# Altium integrated library Micron Memory Mobile LPDRAM.IntLib: 146 symbols (part 13 of 41)
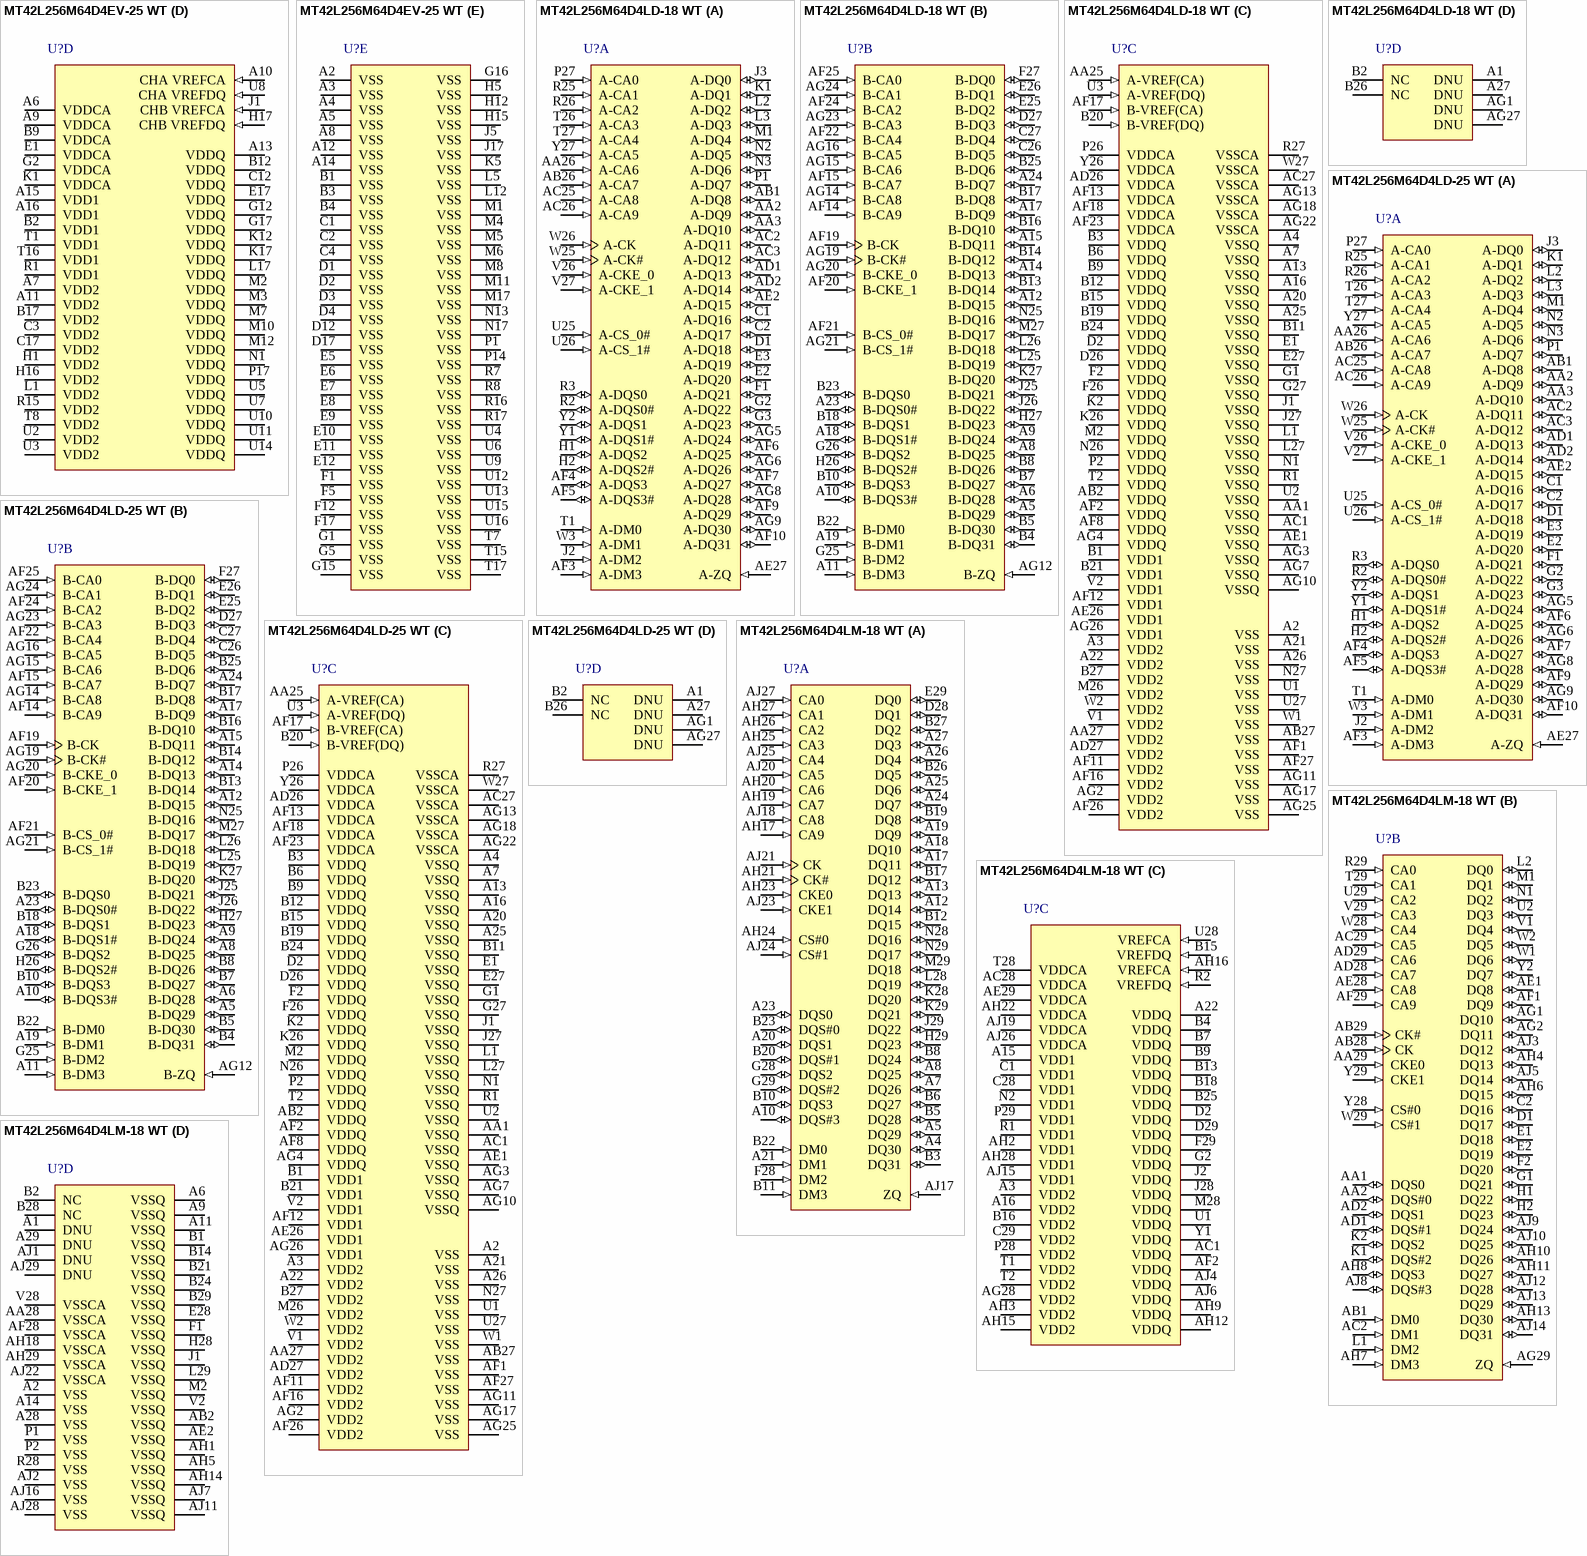
[diagram p36: symbols MT42L256M64D4EV-25 WT to MT42L256M64D4LM-18 WT]

## MT42L256M64D4LD-18 WT
designator U?
16Gb LPDDR2-1066 SDRAM, 256Mb x 64, 1.875ns, 1.2V, -25 to 85 degC, 220-Ball VFBGA, Pb-Free; Manufacturer: Micron; PartNumber: MT42L256M64D4LD-18 WT; Clock Rate: 533 MHz; Op. Temp.: -25C to +85C; DatasheetVersion: Rev.L; PackageVersion: Rev.L; PackageReference: MICT-LD-220; PackageDescription: 220-Ball Fine-Pitch Ball Grid Array, 14 x 14 mm, Pitch 0.5 mm; Cycle Time: 1.875ns; Data Rate: LPDDR2-1066; Density: 16Gb; Depth: 256Mb; Package: VFBGA; Part Status: Sampling; Pin Count: 220-ball; RoHS: Green; Technology: Mobile LPDDR2; Voltage: 1.2V; Width: x64; Mounting Technology: Surface Mount; ComponentLink1Description: Manufacturer URL; ComponentLink1URL: http://www.micron.com/; ComponentLink2Description: Datasheet; ComponentLink2URL: http://www.micron.com/~/media/Documents/Products/Data%20Sheet/DRAM/Mobile%20DRAM/Low-Power%20DRAM/LPDDR2/U80M_4Gb_mobile_lpddr2_s4_sdram.pdf; ComponentLink3Description: Package Specification; ComponentLink3URL: http://www.micron.com/~/media/Documents/Products/Data%20Sheet/DRAM/Mobile%20DRAM/Low-Power%20DRAM/LPDDR2/U80M_4Gb_mobile_lpddr2_s4_sdram.pdf
footprint MICT-LD-220 (BGA, 220-Balls, Body 14x14 mm,Pitch 0.5 mm)
part A pins: AA2 A-DQ9 (io) "Data input/output: Bidirectional data bus.", AA3 A-DQ10 (io) "Data input/output: Bidirectional data bus.", AA26 A-CA6 (in) "Command/address inputs: Provide the command and address inputs according to the command truth table.", AB1 A-DQ8 (io) "Data input/output: Bidirectional data bus.", AB26 A-CA7 (in) "Command/address inputs: Provide the command and address inputs according to the command truth table.", AC2 A-DQ11 (io) "Data input/output: Bidirectional data bus.", AC3 A-DQ12 (io) "Data input/output: Bidirectional data bus.", AC25 A-CA8 (in) "Command/address inputs: Provide the command and address inputs according to the command truth table.", AC26 A-CA9 (in) "Command/address inputs: Provide the command and address inputs according to the command truth table.", AD1 A-DQ13 (io) "Data input/output: Bidirectional data bus.", AD2 A-DQ14 (io) "Data input/output: Bidirectional data bus.", AE2 A-DQ15 (io) "Data input/output: Bidirectional data bus.", AE27 A-ZQ (in) "External impedance (240 ohm): This signal is used to calibrate the device output impedance.", AF3 A-DM3 (in) "Input data mask: DM is an input mask signal for write data. Although DM balls are input-only, the DM loading is designed to match that of DQ and DQS balls. DM[3:0] is DM for each of the four data bytes, respectively", AF4 A-DQS3 (io) "Data strobe: The data strobe is bidirectional (used for read and write data) and complementary (DQS and DQS#). It is edge-aligned output with read data and centered input with write data. DQS[3:0]/DQS[3:0]# is DQS for each (See Datasheet)", AF5 A-DQS3# (io) "Data strobe: The data strobe is bidirectional (used for read and write data) and complementary (DQS and DQS#). It is edge-aligned output with read data and centered input with write data. DQS[3:0]/DQS[3:0]# is DQS for each (See Datasheet)", AF6 A-DQ25 (io) "Data input/output: Bidirectional data bus", AF7 A-DQ27 (io) "Data input/output: Bidirectional data bus", AF9 A-DQ29 (io) "Data input/output: Bidirectional data bus", AF10 A-DQ31 (io) "Data input/output: Bidirectional data bus", AG5 A-DQ24 (io) "Data input/output: Bidirectional data bus", AG6 A-DQ26 (io) "Data input/output: Bidirectional data bus", AG8 A-DQ28 (io) "Data input/output: Bidirectional data bus", AG9 A-DQ30 (io) "Data input/output: Bidirectional data bus", C1 A-DQ16 (io) "Data input/output: Bidirectional data bus.", C2 A-DQ17 (io) "Data input/output: Bidirectional data bus.", D1 A-DQ18 (io) "Data input/output: Bidirectional data bus.", E2 A-DQ20 (io) "Data input/output: Bidirectional data bus.", E3 A-DQ19 (io) "Data input/output: Bidirectional data bus.", F1 A-DQ21 (io) "Data input/output: Bidirectional data bus.", G2 A-DQ22 (io) "Data input/output: Bidirectional data bus.", G3 A-DQ23 (io) "Data input/output: Bidirectional data bus.", H1 A-DQS2 (io) "Data strobe: The data strobe is bidirectional (used for read and write data) and complementary (DQS and DQS#). It is edge-aligned output with read data and centered input with write data. DQS[3:0]/DQS[3:0]# is DQS for each (See Datasheet)", H2 A-DQS2# (io) "Data strobe: The data strobe is bidirectional (used for read and write data) and complementary (DQS and DQS#). It is edge-aligned output with read data and centered input with write data. DQS[3:0]/DQS[3:0]# is DQS for each (See Datasheet)", J2 A-DM2 (in) "Input data mask: DM is an input mask signal for write data. Although DM balls are input-only, the DM loading is designed to match that of DQ and DQS balls. DM[3:0] is DM for each of the four data bytes, respectively.", J3 A-DQ0 (io) "Data input/output: Bidirectional data bus", K1 A-DQ1 (io) "Data input/output: Bidirectional data bus", L2 A-DQ2 (io) "Data input/output: Bidirectional data bus", L3 A-DQ3 (io) "Data input/output: Bidirectional data bus", M1 A-DQ4 (io) "Data input/output: Bidirectional data bus", N2 A-DQ5 (io) "Data input/output: Bidirectional data bus", N3 A-DQ6 (io) "Data input/output: Bidirectional data bus", P1 A-DQ7 (io) "Data input/output: Bidirectional data bus.", P27 A-CA0 (in) "Command/address inputs: Provide the command and address inputs according to the command truth table.", R2 A-DQS0# (io) "Data strobe: The data strobe is bidirectional (used for read and write data) and complementary (DQS and DQS#). It is edge-aligned output with read data and centered input with write data. DQS[3:0]/DQS[3:0]# is DQS for each (See Datasheet)", R3 A-DQS0 (io) "Data strobe: The data strobe is bidirectional (used for read and write data) and complementary (DQS and DQS#). It is edge-aligned output with read data and centered input with write data. DQS[3:0]/DQS[3:0]# is DQS for each (See Datasheet)", R25 A-CA1 (in) "Command/address inputs: Provide the command and address inputs according to the command truth table.", R26 A-CA2 (in) "Command/address inputs: Provide the command and address inputs according to the command truth table.", T1 A-DM0 (in) "Input data mask: DM is an input mask signal for write data. Although DM balls are input-only, the DM loading is designed to match that of DQ and DQS balls. DM[3:0] is DM for each of the four data bytes, respectively.", T26 A-CA3 (in) "Command/address inputs: Provide the command and address inputs according to the command truth table.", T27 A-CA4 (in) "Command/address inputs: Provide the command and address inputs according to the command truth table.", U25 A-CS_0# (in) "Chip select: CS# is considered part of the command code and is sampled at the rising edge of CK.", U26 A-CS_1# (in) "Chip select: CS# is considered part of the command code and is sampled at the rising edge of CK.", V26 A-CKE_0 (in) "Clock enable: CKE HIGH activates and CKE LOW deactivates the internal clock signals, input buffers, and output drivers. Power-saving modes are entered and exited via CKE transitions. CKE is considered part of the command (See Datasheet)", V27 A-CKE_1 (in) "Clock enable: CKE HIGH activates and CKE LOW deactivates the internal clock signals, input buffers, and output drivers. Power-saving modes are entered and exited via CKE transitions. CKE is considered part of the command (See Datasheet)", W3 A-DM1 (in) "Input data mask: DM is an input mask signal for write data. Although DM balls are input-only, the DM loading is designed to match that of DQ and DQS balls. DM[3:0] is DM for each of the four data bytes, respectively.", W25 A-CK# (in) "Clock: CK and CK# are differential clock inputs. All CA inputs are sampled on both rising and falling edges of CK. CS and CKE inputs are sampled at the rising edge of CK. AC timings are referenced to clock.", W26 A-CK (in) "Clock: CK and CK# are differential clock inputs. All CA inputs are sampled on both rising and falling edges of CK. CS and CKE inputs are sampled at the rising edge of CK. AC timings are referenced to clock.", Y1 A-DQS1# (io) "Data strobe: The data strobe is bidirectional (used for read and write data) and complementary (DQS and DQS#). It is edge-aligned output with read data and centered input with write data. DQS[3:0]/DQS[3:0]# is DQS for each (See Datasheet)", Y2 A-DQS1 (io) "Data strobe: The data strobe is bidirectional (used for read and write data) and complementary (DQS and DQS#). It is edge-aligned output with read data and centered input with write data. DQS[3:0]/DQS[3:0]# is DQS for each (See Datasheet)", Y27 A-CA5 (in) "Command/address inputs: Provide the command and address inputs according to the command truth table."
part B pins: A5 B-DQ29 (io) "Data input/output: Bidirectional data bus.", A6 B-DQ28 (io) "Data input/output: Bidirectional data bus.", A8 B-DQ25 (io) "Data input/output: Bidirectional data bus.", A9 B-DQ24 (io) "Data input/output: Bidirectional data bus.", A10 B-DQS3# (io) "Data strobe: The data strobe is bidirectional (used for read and write data) and complementary (DQS and DQS#). It is edge-aligned output with read data and centered input with write data. DQS[3:0]/DQS[3:0]# is DQS for each (See Datasheet)", A11 B-DM3 (in) "Input data mask: DM is an input mask signal for write data. Although DM balls are input-only, the DM loading is designed to match that of DQ and DQS balls. DM[3:0] is DM for each of the four data bytes, respectively.", A12 B-DQ15 (io) "Data input/output: Bidirectional data bus.", A14 B-DQ13 (io) "Data input/output: Bidirectional data bus.", A15 B-DQ11 (io) "Data input/output: Bidirectional data bus.", A17 B-DQ9 (io) "Data input/output: Bidirectional data bus.", A18 B-DQS1# (io) "Data strobe: The data strobe is bidirectional (used for read and write data) and complementary (DQS and DQS#). It is edge-aligned output with read data and centered input with write data. DQS[3:0]/DQS[3:0]# is DQS for each (See Datasheet)", A19 B-DM1 (in) "Input data mask: DM is an input mask signal for write data. Although DM balls are input-only, the DM loading is designed to match that of DQ and DQS balls. DM[3:0] is DM for each of the four data bytes, respectively.", A23 B-DQS0# (io) "Data strobe: The data strobe is bidirectional (used for read and write data) and complementary (DQS and DQS#). It is edge-aligned output with read data and centered input with write data. DQS[3:0]/DQS[3:0]# is DQS for each (See Datasheet)", A24 B-DQ7 (io) "Data input/output: Bidirectional data bus.", AF14 B-CA9 (in) "Command/address inputs: Provide the command and address inputs according to the command truth table.", AF15 B-CA7 (in) "Command/address inputs: Provide the command and address inputs according to the command truth table.", AF19 B-CK (in) "Chip select: CS# is considered part of the command code and is sampled at the rising edge of CK.", AF20 B-CKE_1 (in) "Clock enable: CKE HIGH activates and CKE LOW deactivates the internal clock signals, input buffers, and output drivers. Power-saving modes are entered and exited via CKE transitions. CKE is considered part of the command (See Datasheet)", AF21 B-CS_0# (in) "Chip select: CS# is considered part of the command code and is sampled at the rising edge of CK.", AF22 B-CA4 (in) "Command/address inputs: Provide the command and address inputs according to the command truth table.", AF24 B-CA2 (in) "Command/address inputs: Provide the command and address inputs according to the command truth table.", AF25 B-CA0 (in) "Command/address inputs: Provide the command and address inputs according to the command truth table.", AG12 B-ZQ (in) "External impedance (240 ohm): This signal is used to calibrate the device output impedance.", AG14 B-CA8 (in) "Command/address inputs: Provide the command and address inputs according to the command truth table.", AG15 B-CA6 (in) "Command/address inputs: Provide the command and address inputs according to the command truth table.", AG16 B-CA5 (in) "Command/address inputs: Provide the command and address inputs according to the command truth table.", AG19 B-CK# (in) "Clock: CK and CK# are differential clock inputs. All CA inputs are sampled on both rising and falling edges of CK. CS and CKE inputs are sampled at the rising edge of CK. AC timings are referenced to clock.", AG20 B-CKE_0 (in) "Clock enable: CKE HIGH activates and CKE LOW deactivates the internal clock signals, input buffers, and output drivers. Power-saving modes are entered and exited via CKE transitions. CKE is considered part of the command (See Datasheet)", AG21 B-CS_1# (in) "Clock enable: CKE HIGH activates and CKE LOW deactivates the internal clock signals, input buffers, and output drivers. Power-saving modes are entered and exited via CKE transitions. CKE is considered part of the command (See Datasheet)", AG23 B-CA3 (in) "Command/address inputs: Provide the command and address inputs according to the command truth table.", AG24 B-CA1 (in) "Command/address inputs: Provide the command and address inputs according to the command truth table.", B4 B-DQ31 (io) "Data input/output: Bidirectional data bus.", B5 B-DQ30 (io) "Data input/output: Bidirectional data bus.", B7 B-DQ27 (io) "Data input/output: Bidirectional data bus.", B8 B-DQ26 (io) "Data input/output: Bidirectional data bus.", B10 B-DQS3 (io) "Data input/output: Bidirectional data bus.", B13 B-DQ14 (io) "Data input/output: Bidirectional data bus.", B14 B-DQ12 (io) "Data input/output: Bidirectional data bus.", B16 B-DQ10 (io) "Data input/output: Bidirectional data bus.", B17 B-DQ8 (io) "Data input/output: Bidirectional data bus.", B18 B-DQS1 (io) "Data strobe: The data strobe is bidirectional (used for read and write data) and complementary (DQS and DQS#). It is edge-aligned output with read data and centered input with write data. DQS[3:0]/DQS[3:0]# is DQS for each (See Datasheet)", B22 B-DM0 (in) "Input data mask: DM is an input mask signal for write data. Although DM balls are input-only, the DM loading is designed to match that of DQ and DQS balls. DM[3:0] is DM for each of the four data bytes, respectively.", B23 B-DQS0 (io) "Data strobe: The data strobe is bidirectional (used for read and write data) and complementary (DQS and DQS#). It is edge-aligned output with read data and centered input with write data. DQS[3:0]/DQS[3:0]# is DQS for each (See Datasheet)", B25 B-DQ6 (io) "Data input/output: Bidirectional data bus.", C26 B-DQ5 (io) "Data input/output: Bidirectional data bus.", C27 B-DQ4 (io) "Data input/output: Bidirectional data bus.", D27 B-DQ3 (io) "Data input/output: Bidirectional data bus.", E25 B-DQ2 (io) "Data input/output: Bidirectional data bus.", E26 B-DQ1 (io) "Data input/output: Bidirectional data bus.", F27 B-DQ0 (io) "Data input/output: Bidirectional data bus.", G25 B-DM2 (in) "Input data mask: DM is an input mask signal for write data. Although DM balls are input-only, the DM loading is designed to match that of DQ and DQS balls. DM[3:0] is DM for each of the four data bytes, respectively", G26 B-DQS2 (io) "Data strobe: The data strobe is bidirectional (used for read and write data) and complementary (DQS and DQS#). It is edge-aligned output with read data and centered input with write data. DQS[3:0]/DQS[3:0]# is DQS for each (See Datasheet)", H26 B-DQS2# (io) "Data strobe: The data strobe is bidirectional (used for read and write data) and complementary (DQS and DQS#). It is edge-aligned output with read data and centered input with write data. DQS[3:0]/DQS[3:0]# is DQS for each (See Datasheet)", H27 B-DQ23 (io) "Data input/output: Bidirectional data bus", J25 B-DQ21 (io) "Data input/output: Bidirectional data bus", J26 B-DQ22 (io) "Data input/output: Bidirectional data bus", K27 B-DQ20 (io) "Data input/output: Bidirectional data bus", L25 B-DQ19 (io) "Data input/output: Bidirectional data bus", L26 B-DQ18 (io) "Data input/output: Bidirectional data bus.", M27 B-DQ17 (io) "Data input/output: Bidirectional data bus", N25 B-DQ16 (io) "Data input/output: Bidirectional data bus"
part C pins: A2 VSS (power) "Common ground", A3 VDD2 (power) "Core power: Supply 2.", A4 VSSQ (power) "DQ ground: Isolated on the die for improved noise immunity.", A7 VSSQ (power) "DQ ground: Isolated on the die for improved noise immunity.", A13 VSSQ (power) "DQ ground: Isolated on the die for improved noise immunity.", A16 VSSQ (power) "DQ ground: Isolated on the die for improved noise immunity.", A20 VSSQ (power) "DQ ground: Isolated on the die for improved noise immunity.", A21 VSS (power) "Common ground", A22 VDD2 (power) "Core power: Supply 2.", A25 VSSQ (power) "DQ ground: Isolated on the die for improved noise immunity.", A26 VSS (power) "Common ground", AA1 VSSQ (power) "DQ ground: Isolated on the die for improved noise immunity.", AA25 A-VREF(CA) (in) "Reference voltage: VREFCA is reference for command/address input buffers, VREFDQ is reference for DQ input buffers.", AA27 VDD2 (power) "Core power: Supply 2", AB2 VDDQ (power) "DQ power supply: Isolated on the die for improved noise immunity.", AB27 VSS (power) "Common ground", AC1 VSSQ (power) "DQ ground: Isolated on the die for improved noise immunity.", AC27 VSSCA (power) "Command/address ground: Isolated on the die for improved noise immunity.", AD26 VDDCA (power) "Command/address power supply: Command/address power supply.", AD27 VDD2 (power) "Core power: Supply 2", AE1 VSSQ (power) "DQ ground: Isolated on the die for improved noise immunity.", AE26 VDD1 (power) "Core power: Supply 1.", AF1 VSS (power) "Common ground", AF2 VDDQ (power) "DQ power supply: Isolated on the die for improved noise immunity.", AF8 VDDQ (power) "DQ power supply: Isolated on the die for improved noise immunity.", AF11 VDD2 (power) "Core power: Supply 2.", AF12 VDD1 (power) "Core power: Supply 1.", AF13 VDDCA (power) "Command/address power supply: Command/address power supply.", AF16 VDD2 (power) "Core power: Supply 2.", AF17 B-VREF(CA) (in) "Reference voltage: VREFCA is reference for command/address input buffers, VREFDQ is reference for DQ input buffers.", AF18 VDDCA (power) "Command/address power supply: Command/address power supply", AF23 VDDCA (power) "Command/address power supply: Command/address power supply.", AF26 VDD2 (power) "Core power: Supply 2.", AF27 VSS (power) "Common ground", AG2 VDD2 (power) "Core power: Supply 2.", AG3 VSSQ (power) "DQ ground: Isolated on the die for improved noise immunity.", AG4 VDDQ (power) "DQ power supply: Isolated on the die for improved noise immunity.", AG7 VSSQ (power) "DQ ground: Isolated on the die for improved noise immunity.", AG10 VSSQ (power) "DQ ground: Isolated on the die for improved noise immunity.", AG11 VSS (power) "Common ground", AG13 VSSCA (power) "Command/address ground: Isolated on the die for improved noise immunity.", AG17 VSS (power) "Common ground", AG18 VSSCA (power) "Command/address ground: Isolated on the die for improved noise immunity.", AG22 VSSCA (power) "Command/address ground: Isolated on the die for improved noise immunity.", AG25 VSS (power) "Common ground", AG26 VDD1 (power) "Core power: Supply 1.", B1 VDD1 (power) "Core power: Supply 1.", B3 VDDQ (power) "DQ power supply: Isolated on the die for improved noise immunity.", B6 VDDQ (power) "DQ power supply: Isolated on the die for improved noise immunity.", B9 VDDQ (power) "DQ power supply: Isolated on the die for improved noise immunity.", B11 VSSQ (power) "DQ ground: Isolated on the die for improved noise immunity.", B12 VDDQ (power) "DQ power supply: Isolated on the die for improved noise immunity.", B15 VDDQ (power) "DQ power supply: Isolated on the die for improved noise immunity.", B19 VDDQ (power) "DQ power supply: Isolated on the die for improved noise immunity.", B20 B-VREF(DQ) (in) "Reference voltage: VREFCA is reference for command/address input buffers, VREFDQ is reference for DQ input buffers.", B21 VDD1 (power) "Core power: Supply 1.", B24 VDDQ (power) "DQ power supply: Isolated on the die for improved noise immunity.", B27 VDD2 (power) "Core power: Supply 2.", D2 VDDQ (power) "DQ power supply: Isolated on the die for improved noise immunity.", D26 VDDQ (power) "DQ power supply: Isolated on the die for improved noise immunity.", E1 VSSQ (power) "DQ ground: Isolated on the die for improved noise immunity.", E27 VSSQ (power) "DQ ground: Isolated on the die for improved noise immunity.", F2 VDDQ (power) "DQ power supply: Isolated on the die for improved noise immunity.", F26 VDDQ (power) "DQ power supply: Isolated on the die for improved noise immunity.", G1 VSSQ (power) "DQ ground: Isolated on the die for improved noise immunity", G27 VSSQ (power) "DQ ground: Isolated on the die for improved noise immunity.", J1 VSSQ (power) "DQ ground: Isolated on the die for improved noise immunity.", J27 VSSQ (power) "DQ ground: Isolated on the die for improved noise immunity.", K2 VDDQ (power) "DQ power supply: Isolated on the die for improved noise immunity.", K26 VDDQ (power) "DQ power supply: Isolated on the die for improved noise immunity.", L1 VSSQ (power) "DQ ground: Isolated on the die for improved noise immunity.", L27 VSSQ (power) "DQ ground: Isolated on the die for improved noise immunity.", M2 VDDQ (power) "DQ power supply: Isolated on the die for improved noise immunity.", M26 VDD2 (power) "Core power: Supply 2.", N1 VSSQ (power) "DQ ground: Isolated on the die for improved noise immunity.", N26 VDDQ (power) "DQ power supply: Isolated on the die for improved noise immunity.", N27 VSS (power) "Common ground", P2 VDDQ (power) "DQ power supply: Isolated on the die for improved noise immunity.", P26 VDDCA (power) "Command/address power supply: Command/address power supply.", R1 VSSQ (power) "DQ ground: Isolated on the die for improved noise immunity.", R27 VSSCA (power) "Command/address ground: Isolated on the die for improved noise immunity", T2 VDDQ (power) "DQ power supply: Isolated on the die for improved noise immunity", U1 VSS (power) "Common ground", U2 VSSQ (power) "DQ ground: Isolated on the die for improved noise immunity.", U3 A-VREF(DQ) (in) "Reference voltage: VREFCA is reference for command/address input buffers, VREFDQ is reference for DQ input buffers.", U27 VSS (power) "Common ground", V1 VDD2 (power) "Core power: Supply 2", V2 VDD1 (power) "Core power: Supply 1", W1 VSS (power) "Common ground", W2 VDD2 (power) "Core power: Supply 2.", W27 VSSCA (power) "Command/address ground: Isolated on the die for improved noise immunity.", Y26 VDDCA (power) "Command/address power supply: Command/address power supply."
part D pins: A1 DNU "Do not use: Must be grounded or left floating.", A27 DNU "Do not use: Must be grounded or left floating.", AG1 DNU "Do not use: Must be grounded or left floating.", AG27 DNU "Do not use: Must be grounded or left floating.", B2 NC "No connect: Not internally connected.", B26 NC "No connect: Not internally connected"

## MT42L256M64D4LD-25 WT
designator U?
16Gb LPDDR2-800 SDRAM, 256Mb x 64, 2.5ns, 1.2V, -25 to 85 degC, 220-Ball VFBGA, Pb-Free; Manufacturer: Micron; PartNumber: MT42L256M64D4LD-25 WT; Clock Rate: 400 MHz; Op. Temp.: -25C to +85C; DatasheetVersion: Rev.L; PackageVersion: Rev.L; PackageReference: MICT-LD-220; PackageDescription: 220-Ball Fine-Pitch Ball Grid Array, 14 x 14 mm, Pitch 0.5 mm; Cycle Time: 2.5ns; Data Rate: LPDDR2-800; Density: 16Gb; Depth: 256Mb; Package: VFBGA; Part Status: Sampling; Pin Count: 220-ball; RoHS: Green; Technology: Mobile LPDDR2; Voltage: 1.2V; Width: x64; Mounting Technology: Surface Mount; ComponentLink1Description: Manufacturer URL; ComponentLink1URL: http://www.micron.com/; ComponentLink2Description: Datasheet; ComponentLink2URL: http://www.micron.com/~/media/Documents/Products/Data%20Sheet/DRAM/Mobile%20DRAM/Low-Power%20DRAM/LPDDR2/U80M_4Gb_mobile_lpddr2_s4_sdram.pdf; ComponentLink3Description: Package Specification; ComponentLink3URL: http://www.micron.com/~/media/Documents/Products/Data%20Sheet/DRAM/Mobile%20DRAM/Low-Power%20DRAM/LPDDR2/U80M_4Gb_mobile_lpddr2_s4_sdram.pdf
footprint MICT-LD-220 (BGA, 220-Balls, Body 14x14 mm,Pitch 0.5 mm)
part A pins: AA2 A-DQ9 (io) "Data input/output: Bidirectional data bus.", AA3 A-DQ10 (io) "Data input/output: Bidirectional data bus.", AA26 A-CA6 (in) "Command/address inputs: Provide the command and address inputs according to the command truth table.", AB1 A-DQ8 (io) "Data input/output: Bidirectional data bus.", AB26 A-CA7 (in) "Command/address inputs: Provide the command and address inputs according to the command truth table.", AC2 A-DQ11 (io) "Data input/output: Bidirectional data bus.", AC3 A-DQ12 (io) "Data input/output: Bidirectional data bus.", AC25 A-CA8 (in) "Command/address inputs: Provide the command and address inputs according to the command truth table.", AC26 A-CA9 (in) "Command/address inputs: Provide the command and address inputs according to the command truth table.", AD1 A-DQ13 (io) "Data input/output: Bidirectional data bus.", AD2 A-DQ14 (io) "Data input/output: Bidirectional data bus.", AE2 A-DQ15 (io) "Data input/output: Bidirectional data bus.", AE27 A-ZQ (in) "External impedance (240 ohm): This signal is used to calibrate the device output impedance.", AF3 A-DM3 (in) "Input data mask: DM is an input mask signal for write data. Although DM balls are input-only, the DM loading is designed to match that of DQ and DQS balls. DM[3:0] is DM for each of the four data bytes, respectively", AF4 A-DQS3 (io) "Data strobe: The data strobe is bidirectional (used for read and write data) and complementary (DQS and DQS#). It is edge-aligned output with read data and centered input with write data. DQS[3:0]/DQS[3:0]# is DQS for each (See Datasheet)", AF5 A-DQS3# (io) "Data strobe: The data strobe is bidirectional (used for read and write data) and complementary (DQS and DQS#). It is edge-aligned output with read data and centered input with write data. DQS[3:0]/DQS[3:0]# is DQS for each (See Datasheet)", AF6 A-DQ25 (io) "Data input/output: Bidirectional data bus", AF7 A-DQ27 (io) "Data input/output: Bidirectional data bus", AF9 A-DQ29 (io) "Data input/output: Bidirectional data bus", AF10 A-DQ31 (io) "Data input/output: Bidirectional data bus", AG5 A-DQ24 (io) "Data input/output: Bidirectional data bus", AG6 A-DQ26 (io) "Data input/output: Bidirectional data bus", AG8 A-DQ28 (io) "Data input/output: Bidirectional data bus", AG9 A-DQ30 (io) "Data input/output: Bidirectional data bus", C1 A-DQ16 (io) "Data input/output: Bidirectional data bus.", C2 A-DQ17 (io) "Data input/output: Bidirectional data bus.", D1 A-DQ18 (io) "Data input/output: Bidirectional data bus.", E2 A-DQ20 (io) "Data input/output: Bidirectional data bus.", E3 A-DQ19 (io) "Data input/output: Bidirectional data bus.", F1 A-DQ21 (io) "Data input/output: Bidirectional data bus.", G2 A-DQ22 (io) "Data input/output: Bidirectional data bus.", G3 A-DQ23 (io) "Data input/output: Bidirectional data bus.", H1 A-DQS2 (io) "Data strobe: The data strobe is bidirectional (used for read and write data) and complementary (DQS and DQS#). It is edge-aligned output with read data and centered input with write data. DQS[3:0]/DQS[3:0]# is DQS for each (See Datasheet)", H2 A-DQS2# (io) "Data strobe: The data strobe is bidirectional (used for read and write data) and complementary (DQS and DQS#). It is edge-aligned output with read data and centered input with write data. DQS[3:0]/DQS[3:0]# is DQS for each (See Datasheet)", J2 A-DM2 (in) "Input data mask: DM is an input mask signal for write data. Although DM balls are input-only, the DM loading is designed to match that of DQ and DQS balls. DM[3:0] is DM for each of the four data bytes, respectively.", J3 A-DQ0 (io) "Data input/output: Bidirectional data bus", K1 A-DQ1 (io) "Data input/output: Bidirectional data bus", L2 A-DQ2 (io) "Data input/output: Bidirectional data bus", L3 A-DQ3 (io) "Data input/output: Bidirectional data bus", M1 A-DQ4 (io) "Data input/output: Bidirectional data bus", N2 A-DQ5 (io) "Data input/output: Bidirectional data bus", N3 A-DQ6 (io) "Data input/output: Bidirectional data bus", P1 A-DQ7 (io) "Data input/output: Bidirectional data bus.", P27 A-CA0 (in) "Command/address inputs: Provide the command and address inputs according to the command truth table.", R2 A-DQS0# (io) "Data strobe: The data strobe is bidirectional (used for read and write data) and complementary (DQS and DQS#). It is edge-aligned output with read data and centered input with write data. DQS[3:0]/DQS[3:0]# is DQS for each (See Datasheet)", R3 A-DQS0 (io) "Data strobe: The data strobe is bidirectional (used for read and write data) and complementary (DQS and DQS#). It is edge-aligned output with read data and centered input with write data. DQS[3:0]/DQS[3:0]# is DQS for each (See Datasheet)", R25 A-CA1 (in) "Command/address inputs: Provide the command and address inputs according to the command truth table.", R26 A-CA2 (in) "Command/address inputs: Provide the command and address inputs according to the command truth table.", T1 A-DM0 (in) "Input data mask: DM is an input mask signal for write data. Although DM balls are input-only, the DM loading is designed to match that of DQ and DQS balls. DM[3:0] is DM for each of the four data bytes, respectively.", T26 A-CA3 (in) "Command/address inputs: Provide the command and address inputs according to the command truth table.", T27 A-CA4 (in) "Command/address inputs: Provide the command and address inputs according to the command truth table.", U25 A-CS_0# (in) "Chip select: CS# is considered part of the command code and is sampled at the rising edge of CK.", U26 A-CS_1# (in) "Chip select: CS# is considered part of the command code and is sampled at the rising edge of CK.", V26 A-CKE_0 (in) "Clock enable: CKE HIGH activates and CKE LOW deactivates the internal clock signals, input buffers, and output drivers. Power-saving modes are entered and exited via CKE transitions. CKE is considered part of the command (See Datasheet)", V27 A-CKE_1 (in) "Clock enable: CKE HIGH activates and CKE LOW deactivates the internal clock signals, input buffers, and output drivers. Power-saving modes are entered and exited via CKE transitions. CKE is considered part of the command (See Datasheet)", W3 A-DM1 (in) "Input data mask: DM is an input mask signal for write data. Although DM balls are input-only, the DM loading is designed to match that of DQ and DQS balls. DM[3:0] is DM for each of the four data bytes, respectively.", W25 A-CK# (in) "Clock: CK and CK# are differential clock inputs. All CA inputs are sampled on both rising and falling edges of CK. CS and CKE inputs are sampled at the rising edge of CK. AC timings are referenced to clock.", W26 A-CK (in) "Clock: CK and CK# are differential clock inputs. All CA inputs are sampled on both rising and falling edges of CK. CS and CKE inputs are sampled at the rising edge of CK. AC timings are referenced to clock.", Y1 A-DQS1# (io) "Data strobe: The data strobe is bidirectional (used for read and write data) and complementary (DQS and DQS#). It is edge-aligned output with read data and centered input with write data. DQS[3:0]/DQS[3:0]# is DQS for each (See Datasheet)", Y2 A-DQS1 (io) "Data strobe: The data strobe is bidirectional (used for read and write data) and complementary (DQS and DQS#). It is edge-aligned output with read data and centered input with write data. DQS[3:0]/DQS[3:0]# is DQS for each (See Datasheet)", Y27 A-CA5 (in) "Command/address inputs: Provide the command and address inputs according to the command truth table."
part B pins: A5 B-DQ29 (io) "Data input/output: Bidirectional data bus.", A6 B-DQ28 (io) "Data input/output: Bidirectional data bus.", A8 B-DQ25 (io) "Data input/output: Bidirectional data bus.", A9 B-DQ24 (io) "Data input/output: Bidirectional data bus.", A10 B-DQS3# (io) "Data strobe: The data strobe is bidirectional (used for read and write data) and complementary (DQS and DQS#). It is edge-aligned output with read data and centered input with write data. DQS[3:0]/DQS[3:0]# is DQS for each (See Datasheet)", A11 B-DM3 (in) "Input data mask: DM is an input mask signal for write data. Although DM balls are input-only, the DM loading is designed to match that of DQ and DQS balls. DM[3:0] is DM for each of the four data bytes, respectively.", A12 B-DQ15 (io) "Data input/output: Bidirectional data bus.", A14 B-DQ13 (io) "Data input/output: Bidirectional data bus.", A15 B-DQ11 (io) "Data input/output: Bidirectional data bus.", A17 B-DQ9 (io) "Data input/output: Bidirectional data bus.", A18 B-DQS1# (io) "Data strobe: The data strobe is bidirectional (used for read and write data) and complementary (DQS and DQS#). It is edge-aligned output with read data and centered input with write data. DQS[3:0]/DQS[3:0]# is DQS for each (See Datasheet)", A19 B-DM1 (in) "Input data mask: DM is an input mask signal for write data. Although DM balls are input-only, the DM loading is designed to match that of DQ and DQS balls. DM[3:0] is DM for each of the four data bytes, respectively.", A23 B-DQS0# (io) "Data strobe: The data strobe is bidirectional (used for read and write data) and complementary (DQS and DQS#). It is edge-aligned output with read data and centered input with write data. DQS[3:0]/DQS[3:0]# is DQS for each (See Datasheet)", A24 B-DQ7 (io) "Data input/output: Bidirectional data bus.", AF14 B-CA9 (in) "Command/address inputs: Provide the command and address inputs according to the command truth table.", AF15 B-CA7 (in) "Command/address inputs: Provide the command and address inputs according to the command truth table.", AF19 B-CK (in) "Chip select: CS# is considered part of the command code and is sampled at the rising edge of CK.", AF20 B-CKE_1 (in) "Clock enable: CKE HIGH activates and CKE LOW deactivates the internal clock signals, input buffers, and output drivers. Power-saving modes are entered and exited via CKE transitions. CKE is considered part of the command (See Datasheet)", AF21 B-CS_0# (in) "Chip select: CS# is considered part of the command code and is sampled at the rising edge of CK.", AF22 B-CA4 (in) "Command/address inputs: Provide the command and address inputs according to the command truth table.", AF24 B-CA2 (in) "Command/address inputs: Provide the command and address inputs according to the command truth table.", AF25 B-CA0 (in) "Command/address inputs: Provide the command and address inputs according to the command truth table.", AG12 B-ZQ (in) "External impedance (240 ohm): This signal is used to calibrate the device output impedance.", AG14 B-CA8 (in) "Command/address inputs: Provide the command and address inputs according to the command truth table.", AG15 B-CA6 (in) "Command/address inputs: Provide the command and address inputs according to the command truth table.", AG16 B-CA5 (in) "Command/address inputs: Provide the command and address inputs according to the command truth table.", AG19 B-CK# (in) "Clock: CK and CK# are differential clock inputs. All CA inputs are sampled on both rising and falling edges of CK. CS and CKE inputs are sampled at the rising edge of CK. AC timings are referenced to clock.", AG20 B-CKE_0 (in) "Clock enable: CKE HIGH activates and CKE LOW deactivates the internal clock signals, input buffers, and output drivers. Power-saving modes are entered and exited via CKE transitions. CKE is considered part of the command (See Datasheet)", AG21 B-CS_1# (in) "Clock enable: CKE HIGH activates and CKE LOW deactivates the internal clock signals, input buffers, and output drivers. Power-saving modes are entered and exited via CKE transitions. CKE is considered part of the command (See Datasheet)", AG23 B-CA3 (in) "Command/address inputs: Provide the command and address inputs according to the command truth table.", AG24 B-CA1 (in) "Command/address inputs: Provide the command and address inputs according to the command truth table.", B4 B-DQ31 (io) "Data input/output: Bidirectional data bus.", B5 B-DQ30 (io) "Data input/output: Bidirectional data bus.", B7 B-DQ27 (io) "Data input/output: Bidirectional data bus.", B8 B-DQ26 (io) "Data input/output: Bidirectional data bus.", B10 B-DQS3 (io) "Data input/output: Bidirectional data bus.", B13 B-DQ14 (io) "Data input/output: Bidirectional data bus.", B14 B-DQ12 (io) "Data input/output: Bidirectional data bus.", B16 B-DQ10 (io) "Data input/output: Bidirectional data bus.", B17 B-DQ8 (io) "Data input/output: Bidirectional data bus.", B18 B-DQS1 (io) "Data strobe: The data strobe is bidirectional (used for read and write data) and complementary (DQS and DQS#). It is edge-aligned output with read data and centered input with write data. DQS[3:0]/DQS[3:0]# is DQS for each (See Datasheet)", B22 B-DM0 (in) "Input data mask: DM is an input mask signal for write data. Although DM balls are input-only, the DM loading is designed to match that of DQ and DQS balls. DM[3:0] is DM for each of the four data bytes, respectively.", B23 B-DQS0 (io) "Data strobe: The data strobe is bidirectional (used for read and write data) and complementary (DQS and DQS#). It is edge-aligned output with read data and centered input with write data. DQS[3:0]/DQS[3:0]# is DQS for each (See Datasheet)", B25 B-DQ6 (io) "Data input/output: Bidirectional data bus.", C26 B-DQ5 (io) "Data input/output: Bidirectional data bus.", C27 B-DQ4 (io) "Data input/output: Bidirectional data bus.", D27 B-DQ3 (io) "Data input/output: Bidirectional data bus.", E25 B-DQ2 (io) "Data input/output: Bidirectional data bus.", E26 B-DQ1 (io) "Data input/output: Bidirectional data bus.", F27 B-DQ0 (io) "Data input/output: Bidirectional data bus.", G25 B-DM2 (in) "Input data mask: DM is an input mask signal for write data. Although DM balls are input-only, the DM loading is designed to match that of DQ and DQS balls. DM[3:0] is DM for each of the four data bytes, respectively", G26 B-DQS2 (io) "Data strobe: The data strobe is bidirectional (used for read and write data) and complementary (DQS and DQS#). It is edge-aligned output with read data and centered input with write data. DQS[3:0]/DQS[3:0]# is DQS for each (See Datasheet)", H26 B-DQS2# (io) "Data strobe: The data strobe is bidirectional (used for read and write data) and complementary (DQS and DQS#). It is edge-aligned output with read data and centered input with write data. DQS[3:0]/DQS[3:0]# is DQS for each (See Datasheet)", H27 B-DQ23 (io) "Data input/output: Bidirectional data bus", J25 B-DQ21 (io) "Data input/output: Bidirectional data bus", J26 B-DQ22 (io) "Data input/output: Bidirectional data bus", K27 B-DQ20 (io) "Data input/output: Bidirectional data bus", L25 B-DQ19 (io) "Data input/output: Bidirectional data bus", L26 B-DQ18 (io) "Data input/output: Bidirectional data bus.", M27 B-DQ17 (io) "Data input/output: Bidirectional data bus", N25 B-DQ16 (io) "Data input/output: Bidirectional data bus"
part C pins: A2 VSS (power) "Common ground", A3 VDD2 (power) "Core power: Supply 2.", A4 VSSQ (power) "DQ ground: Isolated on the die for improved noise immunity.", A7 VSSQ (power) "DQ ground: Isolated on the die for improved noise immunity.", A13 VSSQ (power) "DQ ground: Isolated on the die for improved noise immunity.", A16 VSSQ (power) "DQ ground: Isolated on the die for improved noise immunity.", A20 VSSQ (power) "DQ ground: Isolated on the die for improved noise immunity.", A21 VSS (power) "Common ground", A22 VDD2 (power) "Core power: Supply 2.", A25 VSSQ (power) "DQ ground: Isolated on the die for improved noise immunity.", A26 VSS (power) "Common ground", AA1 VSSQ (power) "DQ ground: Isolated on the die for improved noise immunity.", AA25 A-VREF(CA) (in) "Reference voltage: VREFCA is reference for command/address input buffers, VREFDQ is reference for DQ input buffers.", AA27 VDD2 (power) "Core power: Supply 2", AB2 VDDQ (power) "DQ power supply: Isolated on the die for improved noise immunity.", AB27 VSS (power) "Common ground", AC1 VSSQ (power) "DQ ground: Isolated on the die for improved noise immunity.", AC27 VSSCA (power) "Command/address ground: Isolated on the die for improved noise immunity.", AD26 VDDCA (power) "Command/address power supply: Command/address power supply.", AD27 VDD2 (power) "Core power: Supply 2", AE1 VSSQ (power) "DQ ground: Isolated on the die for improved noise immunity.", AE26 VDD1 (power) "Core power: Supply 1.", AF1 VSS (power) "Common ground", AF2 VDDQ (power) "DQ power supply: Isolated on the die for improved noise immunity.", AF8 VDDQ (power) "DQ power supply: Isolated on the die for improved noise immunity.", AF11 VDD2 (power) "Core power: Supply 2.", AF12 VDD1 (power) "Core power: Supply 1.", AF13 VDDCA (power) "Command/address power supply: Command/address power supply.", AF16 VDD2 (power) "Core power: Supply 2.", AF17 B-VREF(CA) (in) "Reference voltage: VREFCA is reference for command/address input buffers, VREFDQ is reference for DQ input buffers.", AF18 VDDCA (power) "Command/address power supply: Command/address power supply", AF23 VDDCA (power) "Command/address power supply: Command/address power supply.", AF26 VDD2 (power) "Core power: Supply 2.", AF27 VSS (power) "Common ground", AG2 VDD2 (power) "Core power: Supply 2.", AG3 VSSQ (power) "DQ ground: Isolated on the die for improved noise immunity.", AG4 VDDQ (power) "DQ power supply: Isolated on the die for improved noise immunity.", AG7 VSSQ (power) "DQ ground: Isolated on the die for improved noise immunity.", AG10 VSSQ (power) "DQ ground: Isolated on the die for improved noise immunity.", AG11 VSS (power) "Common ground", AG13 VSSCA (power) "Command/address ground: Isolated on the die for improved noise immunity.", AG17 VSS (power) "Common ground", AG18 VSSCA (power) "Command/address ground: Isolated on the die for improved noise immunity.", AG22 VSSCA (power) "Command/address ground: Isolated on the die for improved noise immunity.", AG25 VSS (power) "Common ground", AG26 VDD1 (power) "Core power: Supply 1.", B1 VDD1 (power) "Core power: Supply 1.", B3 VDDQ (power) "DQ power supply: Isolated on the die for improved noise immunity.", B6 VDDQ (power) "DQ power supply: Isolated on the die for improved noise immunity.", B9 VDDQ (power) "DQ power supply: Isolated on the die for improved noise immunity.", B11 VSSQ (power) "DQ ground: Isolated on the die for improved noise immunity.", B12 VDDQ (power) "DQ power supply: Isolated on the die for improved noise immunity.", B15 VDDQ (power) "DQ power supply: Isolated on the die for improved noise immunity.", B19 VDDQ (power) "DQ power supply: Isolated on the die for improved noise immunity.", B20 B-VREF(DQ) (in) "Reference voltage: VREFCA is reference for command/address input buffers, VREFDQ is reference for DQ input buffers.", B21 VDD1 (power) "Core power: Supply 1.", B24 VDDQ (power) "DQ power supply: Isolated on the die for improved noise immunity.", B27 VDD2 (power) "Core power: Supply 2.", D2 VDDQ (power) "DQ power supply: Isolated on the die for improved noise immunity.", D26 VDDQ (power) "DQ power supply: Isolated on the die for improved noise immunity.", E1 VSSQ (power) "DQ ground: Isolated on the die for improved noise immunity.", E27 VSSQ (power) "DQ ground: Isolated on the die for improved noise immunity.", F2 VDDQ (power) "DQ power supply: Isolated on the die for improved noise immunity.", F26 VDDQ (power) "DQ power supply: Isolated on the die for improved noise immunity.", G1 VSSQ (power) "DQ ground: Isolated on the die for improved noise immunity", G27 VSSQ (power) "DQ ground: Isolated on the die for improved noise immunity.", J1 VSSQ (power) "DQ ground: Isolated on the die for improved noise immunity.", J27 VSSQ (power) "DQ ground: Isolated on the die for improved noise immunity.", K2 VDDQ (power) "DQ power supply: Isolated on the die for improved noise immunity.", K26 VDDQ (power) "DQ power supply: Isolated on the die for improved noise immunity.", L1 VSSQ (power) "DQ ground: Isolated on the die for improved noise immunity.", L27 VSSQ (power) "DQ ground: Isolated on the die for improved noise immunity.", M2 VDDQ (power) "DQ power supply: Isolated on the die for improved noise immunity.", M26 VDD2 (power) "Core power: Supply 2.", N1 VSSQ (power) "DQ ground: Isolated on the die for improved noise immunity.", N26 VDDQ (power) "DQ power supply: Isolated on the die for improved noise immunity.", N27 VSS (power) "Common ground", P2 VDDQ (power) "DQ power supply: Isolated on the die for improved noise immunity.", P26 VDDCA (power) "Command/address power supply: Command/address power supply.", R1 VSSQ (power) "DQ ground: Isolated on the die for improved noise immunity.", R27 VSSCA (power) "Command/address ground: Isolated on the die for improved noise immunity", T2 VDDQ (power) "DQ power supply: Isolated on the die for improved noise immunity", U1 VSS (power) "Common ground", U2 VSSQ (power) "DQ ground: Isolated on the die for improved noise immunity.", U3 A-VREF(DQ) (in) "Reference voltage: VREFCA is reference for command/address input buffers, VREFDQ is reference for DQ input buffers.", U27 VSS (power) "Common ground", V1 VDD2 (power) "Core power: Supply 2", V2 VDD1 (power) "Core power: Supply 1", W1 VSS (power) "Common ground", W2 VDD2 (power) "Core power: Supply 2.", W27 VSSCA (power) "Command/address ground: Isolated on the die for improved noise immunity.", Y26 VDDCA (power) "Command/address power supply: Command/address power supply."
part D pins: A1 DNU "Do not use: Must be grounded or left floating.", A27 DNU "Do not use: Must be grounded or left floating.", AG1 DNU "Do not use: Must be grounded or left floating.", AG27 DNU "Do not use: Must be grounded or left floating.", B2 NC "No connect: Not internally connected.", B26 NC "No connect: Not internally connected"